# Altium footprint library Multilayer Radial Ceramic PTH Capacitors.PcbLib: 2 footprints
Each footprint in its own frame and in the unit in brackets; x right, y up, seen from the top. Pads: shape width x height; smd on the part's side, far side on the other; paste and mask are expansions set on the pad; w line width, h text height; cw(c..) or ccw(c..) is an arc to the next point about the centre after c.
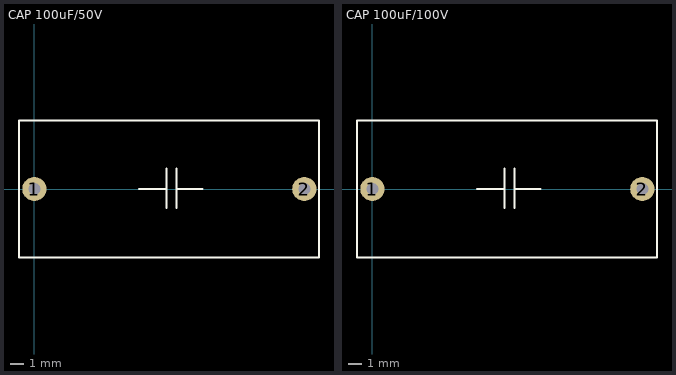
[diagram p0: the footprints below, top view; thin cyan lines are the x and y axes]

## CAP 100uF/50V [mm] "100µF ±20% 50V Ceramic Capacitor X7R Radial"
pads (2):
  round 1.8 hole 0.9: 1(0,0) 2(20,0)
Top Overlay:
  lines w0.152: 7.747,0 9.779,0 ; 9.779,-1.397 9.779,0 ; 9.779,1.524 9.779,0 ; 10.541,-1.397 10.541,1.524 ; 10.541,0 12.446,0 ; -1.143,-5.08 -1.143,5.08 21.082,5.08 21.082,-5.08 -1.143,-5.08
3D body "Cap Poly Film 20mm Pitch.STEP": height 17.5, standoff -2, extent -1,-5 21,5

## CAP 100uF/100V [mm] "100µF ±20% 100V Ceramic Capacitor X7R Radial"
pads (2):
  round 1.8 hole 0.9: 1(0,0) 2(20,0)
Top Overlay:
  lines w0.152: 7.747,0 9.779,0 ; 9.779,-1.397 9.779,0 ; 9.779,1.524 9.779,0 ; 10.541,-1.397 10.541,1.524 ; 10.541,0 12.446,0 ; -1.143,-5.08 -1.143,5.08 21.082,5.08 21.082,-5.08 -1.143,-5.08
3D body "Cap Poly Film 20mm Pitch.STEP": height 17.5, standoff -2, extent -1,-5 21,5